# Altium integrated library TI Power Management Battery Management.IntLib: 949 symbols (part 62 of 62)
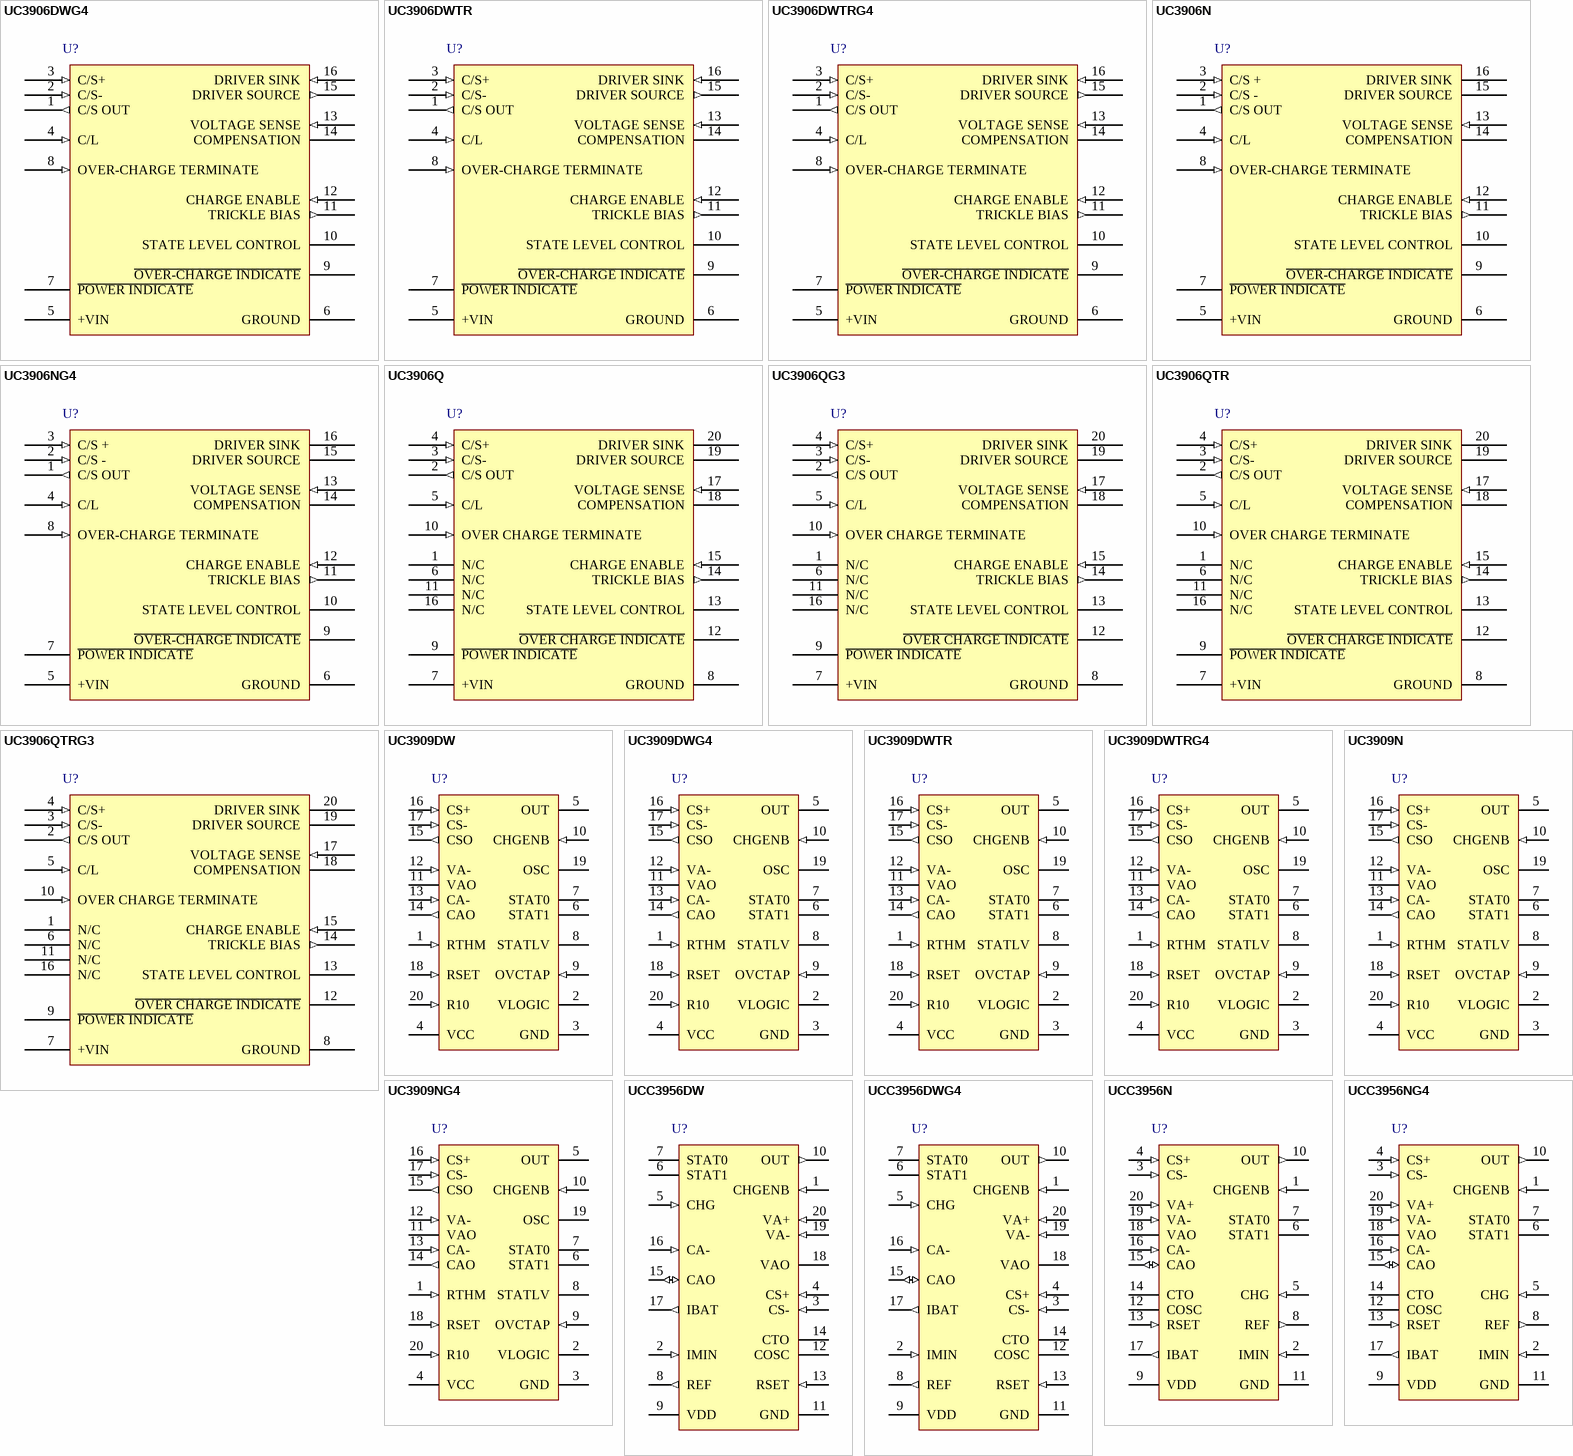
[diagram p95: symbols UC3906DWG4 to UCC3956NG4]

## UC3909DWTR
designator U?
Switch-Mode Lead-Acid Battery Charger with Differential Current Sense, -20 to 70 degC, 20-pin SOIC (DW), Green (RoHS & no Sb/Br); PartNumber: UC3909DWTR; Manufacturer: Texas Instruments; Lead Acid: Y; Li-Ion: N; SubFamily: Battery Charge Management; PackageVersion: revG, Jan-2011; PackageReference: DW20; PackageDescription: 20-Pin Plastic Small Outline Integrated Circuit, 12.8 x 7.5 mm, Pitch 1.27 mm Pitch; Supplier 1: Digi-Key; Supplier Part Number 1: UC3909DWTR-ND; Supplier 2: Newark; Supplier Part Number 2: 77C3476; Supplier 3: Mouser; Supplier Part Number 3: 595-UC3909DWTR; Eco-Plan: Green (RoHS & no Sb/Br); Li-Polymer: N; NiCd: N; NiMH: N; Over Voltage Protection: N; Mounting Technology: Surface Mount; Code_JEDEC: MS-013-AC; ComponentLink1Description: Datasheet; ComponentLink1URL: http://www.ti.com/general/docs/lit/getliterature.tsp?genericPartNumber=UC3909&fileType=pdf
footprint DW20_N (SOIC, 20-Leads, Body 12.8x7.5mm, Pitch 1.27mm, IPC Medium Density)
footprint DW20_L (SOIC, 20-Leads, Body 12.8x7.5mm, Pitch 1.27mm, IPC High Density)
footprint DW20_M (SOIC, 20-Leads, Body 12.8x7.5mm, Pitch 1.27mm, IPC Low Density)
pins: 1 RTHM (in) "A 10k thermistor is connected to ground and is thermally connected to the battery. The resistance will vary exponentially over temperature and its change is used to vary the internal 2.3V reference by -3.9mV/degreesC. The (See Datasheet)", 2 VLOGIC "The precision reference voltage. It should be bypassed with a 0.1uF capacitor.", 3 GND (power) "The reference point for the internal reference, all thresholds, and the return for the remainder of the device. The output sink transistor is wired directly to this pin.", 4 VCC (power) "The input voltage to the chip. The chip is operational between 7.5V and 40V and should be bypassed with a 1uF capacitor. A typical ICC vs. temperature is shown in Figure 1.", 5 OUT (power) "The output of the PWM driver which consists of  an open collector output transistor with 100mA sink capability.", 6 STAT1 (oc) "This open collector pin is the second decode bit sed to decode the charge states.", 7 STAT0 (oc) "This open collector pin is the first decode bit used to decode the charge states.", 8 STATLV (oc) "This bit is high when the charger is in the float state.", 9 OVCTAP (in) "The overcharge current taper pin detects when the output current has tapered to the float threshold in the overcharge state.", 10 CHGENB (in) "The input to a comparator that detects when battery voltage is low and places the charger in a trickle charge state. The charge enable comparator makes the output of the voltage error amplifier a high impedance while forcing (See Datasheet)", 11 VAO (hiz) "The output of the voltage error amplifier. The upper output clamp voltage of this amplifier is 5V.", 12 VA- (in) "The inverting input to the voltage error amplifier.", 13 CA- (in) "The inverting input to the current error amplifier.", 14 CAO (out) "The output of the current error amplifier which is internally clamped to approximately 4V. It is internally connected to the inverting input of the PWM comparator.", 15 CSO (out) "The output of the current sense amplifier which is internally clamped to approximately 5.7V.", 16 CS+ (in) "The inverting and non-inverting inputs to the current sense amplifier. This amplifier has a fixed gain of five and a common-mode voltage range of from -250mV to +VCC.", 17 CS- (in) "The inverting and non-inverting inputs to the current sense amplifier. This amplifier has a fixed gain of five and a common-mode voltage range of from -250mV to +VCC.", 18 RSET (in) "A resistor to ground programs the oscillator charge current and the trickle control current for the oscillator ramp.The oscillator charge current is approximately 1.75 / RSET. The trickle control current (ITRCK_CONTROL) is (See Datasheet)", 19 OSC "The oscillator ramp pin which has a capacitor (CT) to ground. The ramp oscillates between approximately 1.0V to 3.0V and the frequency is approximated by:frequency=1 / (1.2*CT*Rset)", 20 R10 (in) "Input used to establish a differential voltage corresponding to the temperature of the thermistor. Connect a 10k resistor to ground from this point."

## UC3909DWTRG4
designator U?
Switch-Mode Lead-Acid Battery Charger with Differential Current Sense, -20 to 70 degC, 20-pin SOIC (DW), Green (RoHS & no Sb/Br); PartNumber: UC3909DWTRG4; Manufacturer: Texas Instruments; Lead Acid: Y; Li-Ion: N; SubFamily: Battery Charge Management; PackageVersion: revG, Jan-2011; PackageReference: DW20; PackageDescription: 20-Pin Plastic Small Outline Integrated Circuit, 12.8 x 7.5 mm, Pitch 1.27 mm Pitch; Supplier 1: Digi-Key; Supplier Part Number 1: UC3909DWTRG4-ND; Supplier 2: Newark; Supplier Part Number 2: 54K2364; Supplier 3: Mouser; Supplier Part Number 3: 595-UC3909DWTRG4; Eco-Plan: Green (RoHS & no Sb/Br); Li-Polymer: N; NiCd: N; NiMH: N; Over Voltage Protection: N; Mounting Technology: Surface Mount; Code_JEDEC: MS-013-AC; ComponentLink1Description: Datasheet; ComponentLink1URL: http://www.ti.com/general/docs/lit/getliterature.tsp?genericPartNumber=UC3909&fileType=pdf
footprint DW20_N (SOIC, 20-Leads, Body 12.8x7.5mm, Pitch 1.27mm, IPC Medium Density)
footprint DW20_L (SOIC, 20-Leads, Body 12.8x7.5mm, Pitch 1.27mm, IPC High Density)
footprint DW20_M (SOIC, 20-Leads, Body 12.8x7.5mm, Pitch 1.27mm, IPC Low Density)
pins: 1 RTHM (in) "A 10k thermistor is connected to ground and is thermally connected to the battery. The resistance will vary exponentially over temperature and its change is used to vary the internal 2.3V reference by -3.9mV/degreesC. The (See Datasheet)", 2 VLOGIC "The precision reference voltage. It should be bypassed with a 0.1uF capacitor.", 3 GND (power) "The reference point for the internal reference, all thresholds, and the return for the remainder of the device. The output sink transistor is wired directly to this pin.", 4 VCC (power) "The input voltage to the chip. The chip is operational between 7.5V and 40V and should be bypassed with a 1uF capacitor. A typical ICC vs. temperature is shown in Figure 1.", 5 OUT (power) "The output of the PWM driver which consists of  an open collector output transistor with 100mA sink capability.", 6 STAT1 (oc) "This open collector pin is the second decode bit sed to decode the charge states.", 7 STAT0 (oc) "This open collector pin is the first decode bit used to decode the charge states.", 8 STATLV (oc) "This bit is high when the charger is in the float state.", 9 OVCTAP (in) "The overcharge current taper pin detects when the output current has tapered to the float threshold in the overcharge state.", 10 CHGENB (in) "The input to a comparator that detects when battery voltage is low and places the charger in a trickle charge state. The charge enable comparator makes the output of the voltage error amplifier a high impedance while forcing (See Datasheet)", 11 VAO (hiz) "The output of the voltage error amplifier. The upper output clamp voltage of this amplifier is 5V.", 12 VA- (in) "The inverting input to the voltage error amplifier.", 13 CA- (in) "The inverting input to the current error amplifier.", 14 CAO (out) "The output of the current error amplifier which is internally clamped to approximately 4V. It is internally connected to the inverting input of the PWM comparator.", 15 CSO (out) "The output of the current sense amplifier which is internally clamped to approximately 5.7V.", 16 CS+ (in) "The inverting and non-inverting inputs to the current sense amplifier. This amplifier has a fixed gain of five and a common-mode voltage range of from -250mV to +VCC.", 17 CS- (in) "The inverting and non-inverting inputs to the current sense amplifier. This amplifier has a fixed gain of five and a common-mode voltage range of from -250mV to +VCC.", 18 RSET (in) "A resistor to ground programs the oscillator charge current and the trickle control current for the oscillator ramp.The oscillator charge current is approximately 1.75 / RSET. The trickle control current (ITRCK_CONTROL) is (See Datasheet)", 19 OSC "The oscillator ramp pin which has a capacitor (CT) to ground. The ramp oscillates between approximately 1.0V to 3.0V and the frequency is approximated by:frequency=1 / (1.2*CT*Rset)", 20 R10 (in) "Input used to establish a differential voltage corresponding to the temperature of the thermistor. Connect a 10k resistor to ground from this point."

## UC3909N
designator U?
Switch-Mode Lead-Acid Battery Charger with Differential Current Sense, -20 to 70 degC, 20-pin PDIP (N), Green (RoHS & no Sb/Br); PartNumber: UC3909N; Manufacturer: Texas Instruments; Lead Acid: Y; SubFamily: Battery Charge Management; PackageVersion: revE, Dec-2002; PackageReference: N20; PackageDescription: 20-Pin Plastic Dual-In-Line Package, Row Spacing 7.62 mm, Pitch 2.54 mm; Supplier 1: Digi-Key; Supplier Part Number 1: 296-2232-5-ND; Supplier 2: Farnell; Supplier Part Number 2: 1755702; Supplier 3: Newark; Supplier Part Number 3: 77C3477; Supplier 4: Mouser; Supplier Part Number 4: 595-UC3909N; Eco-Plan: Green (RoHS & no Sb/Br); Li-Ion: N; Li-Polymer: N; NiCd: N; NiMH: N; Over Voltage Protection: N; Mounting Technology: Through Hole; Code_JEDEC: MS-001-AC*; ComponentLink1Description: Datasheet; ComponentLink1URL: http://www.ti.com/general/docs/lit/getliterature.tsp?genericPartNumber=UC3909&fileType=pdf
footprint N20 (DIP, 20-Leads, Row Spacing 7.62mm, Pitch 2.54mm, Body 25.4x6.4mm)
pins: 1 RTHM (in) "A 10k thermistor is connected to ground and is thermally connected to the battery. The resistance will vary exponentially over temperature and its change is used to vary the internal 2.3V reference by -3.9mV/degreesC. The (See Datasheet)", 2 VLOGIC "The precision reference voltage. It should be bypassed with a 0.1uF capacitor.", 3 GND (power) "The reference point for the internal reference, all thresholds, and the return for the remainder of the device. The output sink transistor is wired directly to this pin.", 4 VCC (power) "The input voltage to the chip. The chip is operational between 7.5V and 40V and should be bypassed with a 1uF capacitor. A typical ICC vs. temperature is shown in Figure 1.", 5 OUT (power) "The output of the PWM driver which consists of  an open collector output transistor with 100mA sink capability.", 6 STAT1 (oc) "This open collector pin is the second decode bit sed to decode the charge states.", 7 STAT0 (oc) "This open collector pin is the first decode bit used to decode the charge states.", 8 STATLV (oc) "This bit is high when the charger is in the float state.", 9 OVCTAP (in) "The overcharge current taper pin detects when the output current has tapered to the float threshold in the overcharge state.", 10 CHGENB (in) "The input to a comparator that detects when battery voltage is low and places the charger in a trickle charge state. The charge enable comparator makes the output of the voltage error amplifier a high impedance while forcing (See Datasheet)", 11 VAO (hiz) "The output of the voltage error amplifier. The upper output clamp voltage of this amplifier is 5V.", 12 VA- (in) "The inverting input to the voltage error amplifier.", 13 CA- (in) "The inverting input to the current error amplifier.", 14 CAO (out) "The output of the current error amplifier which is internally clamped to approximately 4V. It is internally connected to the inverting input of the PWM comparator.", 15 CSO (out) "The output of the current sense amplifier which is internally clamped to approximately 5.7V.", 16 CS+ (in) "The inverting and non-inverting inputs to the current sense amplifier. This amplifier has a fixed gain of five and a common-mode voltage range of from -250mV to +VCC.", 17 CS- (in) "The inverting and non-inverting inputs to the current sense amplifier. This amplifier has a fixed gain of five and a common-mode voltage range of from -250mV to +VCC.", 18 RSET (in) "A resistor to ground programs the oscillator charge current and the trickle control current for the oscillator ramp.The oscillator charge current is approximately 1.75 / RSET. The trickle control current (ITRCK_CONTROL) is (See Datasheet)", 19 OSC "The oscillator ramp pin which has a capacitor (CT) to ground. The ramp oscillates between approximately 1.0V to 3.0V and the frequency is approximated by:frequency=1 / (1.2*CT*Rset)", 20 R10 (in) "Input used to establish a differential voltage corresponding to the temperature of the thermistor. Connect a 10k resistor to ground from this point."

## UC3909NG4
designator U?
Switch-Mode Lead-Acid Battery Charger with Differential Current Sense, -20 to 70 degC, 20-pin PDIP (N), Green (RoHS & no Sb/Br); PartNumber: UC3909NG4; Manufacturer: Texas Instruments; Lead Acid: Y; SubFamily: Battery Charge Management; PackageVersion: revE, Dec-2002; PackageReference: N20; PackageDescription: 20-Pin Plastic Dual-In-Line Package, Row Spacing 7.62 mm, Pitch 2.54 mm; Supplier 1: Digi-Key; Supplier Part Number 1: UC3909NG4-ND; Supplier 2: Newark; Supplier Part Number 2: 70K6039; Supplier 3: Mouser; Supplier Part Number 3: 595-UC3909NG4; Eco-Plan: Green (RoHS & no Sb/Br); Li-Ion: N; Li-Polymer: N; NiCd: N; NiMH: N; Over Voltage Protection: N; Mounting Technology: Through Hole; Code_JEDEC: MS-001-AC*; ComponentLink1Description: Datasheet; ComponentLink1URL: http://www.ti.com/general/docs/lit/getliterature.tsp?genericPartNumber=UC3909&fileType=pdf
footprint N20 (DIP, 20-Leads, Row Spacing 7.62mm, Pitch 2.54mm, Body 25.4x6.4mm)
pins: 1 RTHM (in) "A 10k thermistor is connected to ground and is thermally connected to the battery. The resistance will vary exponentially over temperature and its change is used to vary the internal 2.3V reference by -3.9mV/degreesC. The (See Datasheet)", 2 VLOGIC "The precision reference voltage. It should be bypassed with a 0.1uF capacitor.", 3 GND (power) "The reference point for the internal reference, all thresholds, and the return for the remainder of the device. The output sink transistor is wired directly to this pin.", 4 VCC (power) "The input voltage to the chip. The chip is operational between 7.5V and 40V and should be bypassed with a 1uF capacitor. A typical ICC vs. temperature is shown in Figure 1.", 5 OUT (power) "The output of the PWM driver which consists of  an open collector output transistor with 100mA sink capability.", 6 STAT1 (oc) "This open collector pin is the second decode bit sed to decode the charge states.", 7 STAT0 (oc) "This open collector pin is the first decode bit used to decode the charge states.", 8 STATLV (oc) "This bit is high when the charger is in the float state.", 9 OVCTAP (in) "The overcharge current taper pin detects when the output current has tapered to the float threshold in the overcharge state.", 10 CHGENB (in) "The input to a comparator that detects when battery voltage is low and places the charger in a trickle charge state. The charge enable comparator makes the output of the voltage error amplifier a high impedance while forcing (See Datasheet)", 11 VAO (hiz) "The output of the voltage error amplifier. The upper output clamp voltage of this amplifier is 5V.", 12 VA- (in) "The inverting input to the voltage error amplifier.", 13 CA- (in) "The inverting input to the current error amplifier.", 14 CAO (out) "The output of the current error amplifier which is internally clamped to approximately 4V. It is internally connected to the inverting input of the PWM comparator.", 15 CSO (out) "The output of the current sense amplifier which is internally clamped to approximately 5.7V.", 16 CS+ (in) "The inverting and non-inverting inputs to the current sense amplifier. This amplifier has a fixed gain of five and a common-mode voltage range of from -250mV to +VCC.", 17 CS- (in) "The inverting and non-inverting inputs to the current sense amplifier. This amplifier has a fixed gain of five and a common-mode voltage range of from -250mV to +VCC.", 18 RSET (in) "A resistor to ground programs the oscillator charge current and the trickle control current for the oscillator ramp.The oscillator charge current is approximately 1.75 / RSET. The trickle control current (ITRCK_CONTROL) is (See Datasheet)", 19 OSC "The oscillator ramp pin which has a capacitor (CT) to ground. The ramp oscillates between approximately 1.0V to 3.0V and the frequency is approximated by:frequency=1 / (1.2*CT*Rset)", 20 R10 (in) "Input used to establish a differential voltage corresponding to the temperature of the thermistor. Connect a 10k resistor to ground from this point."

## UCC3956DW
designator U?
Switch-Mode Lead-Acid Battery Charger with Differential Current Sense, -20 to 70 degC, 20-pin SOIC (DW), Green (RoHS & no Sb/Br); PartNumber: UCC3956DW; Manufacturer: Texas Instruments; Lead Acid: N; Li-Ion: Y; SubFamily: Battery Charge Management; DatasheetVersion: SLUS249B; PackageVersion: revG, Jan-2011; PackageReference: DW20; PackageDescription: 20-Pin Plastic Small Outline Integrated Circuit, 12.8 x 7.5 mm, Pitch 1.27 mm Pitch; Supplier 1: Digi-Key; Supplier Part Number 1: 296-11560-5-ND; Supplier 2: Newark; Supplier Part Number 2: 77C2650; Supplier 3: Mouser; Supplier Part Number 3: 595-UCC3956DW; Eco-Plan: Green (RoHS & no Sb/Br); Li-Polymer: Y; NiCd: N; NiMH: N; Over Voltage Protection: N; Mounting Technology: Surface Mount; Code_JEDEC: MS-013-AC; ComponentLink1Description: Datasheet; ComponentLink1URL: http://www.ti.com/general/docs/lit/getliterature.tsp?genericPartNumber=UCC3956&fileType=pdf
footprint DW20_N (SOIC, 20-Leads, Body 12.8x7.5mm, Pitch 1.27mm, IPC Medium Density)
footprint DW20_L (SOIC, 20-Leads, Body 12.8x7.5mm, Pitch 1.27mm, IPC High Density)
footprint DW20_M (SOIC, 20-Leads, Body 12.8x7.5mm, Pitch 1.27mm, IPC Low Density)
pins: 1 CHGENB (in) "The input to a comparator that detects when the battery voltage is low and places the charger in trickle charge. The charge-enable comparator forces the output of the voltage-error amplifier to a high-impedance state while (See Datasheet)", 2 IMIN (in) "The minimum-charge-current programming pin is provided to program an optional-charge termination in addition to the programmable timer.", 3 CS- (in) "The inverting and non-inverting inputs to the current-sense amplifier. This amplifier has a fixed-gain of 5.", 4 CS+ (in) "The inverting and non-inverting inputs to the current-sense amplifier. This amplifier has a fixed-gain of 5.", 5 CHG (in) "A rising-edge triggered-input pin that indicates charging. Once the internal 14-bit timer has timed out, the chip enters its shutdown charge state. At this point, CHG is pulled low by an internal buffer. Another low-to-high (See Datasheet)", 6 STAT1 (oc) "CMOS open-drain binary-output decode pins indicating the four different charge states. The maximum high-voltage sense comparator.", 7 STAT0 (oc) "CMOS open-drain binary-output decode pins indicating the four different charge states. The maximum high-voltage sense comparator.", 8 REF (out) "The 4.1-V precision reference, which should be bypassed with a 0.1-uF capacitor", 9 VDD (power) "The input voltage of the chip. This chip is operational between 6 V and 18 V and should be bypassed with a 0.1-uF capacitor.", 10 OUT (out) "The output of the PWM driver", 11 GND (power) "The reference point for the internal reference, all thresholds, and the return for the remainder of the device.", 12 COSC "The oscillator ramp pin which has a capacitor (COSC) to ground. The ramp oscillates between 0.8 V to 3.2 V and the frequency is determined by:Frequency = 3.475/[(COSC  20 pF) X RSET] A rising edge on CHG initiates the (See Datasheet)", 13 RSET (in) "This pin programs the charge current for the oscillator ramp.The oscillator-charge current is determined by:ICOSC=1.37 V/RSET  The trickle-control current (ITRCK_CONTROL) is determined by:ITCK_CONTROL=0.68 V/RSET", 14 CTO "The slow oscillator ramp pin, which is used to generate a clock signal for the 14-bit timer to program the overcharge time. A capacitor (tied to ground) is charged and discharged with equal currents at a frequency programmed (See Datasheet)", 15 CAO (io) "The output of the current-error amplifier and inverting input of the PWM comparator. This pin is driven high during shutdown.", 16 CA- (in) "The inverting input to the current-error amplifier", 17 IBAT (out) "The output of the current-sense amplifier.", 18 VAO (hiz) "The output of the voltage-error amplifier. The upper-output clamp of this amplifier is 4.1 V.", 19 VA- (in) "The inverting input to the voltage-error amplifier that is used as a battery-sense input. It is also the input to the voltage-sense comparator. The bulk-charge state is completed and overcharge state is initiated when VA- (See Datasheet)", 20 VA+ (in) "The non-inverting input to the voltage-error amplifier that is used as the battery-charge reference voltage."

## UCC3956DWG4
designator U?
Switch-Mode Lead-Acid Battery Charger with Differential Current Sense, -20 to 70 degC, 20-pin SOIC (DW), Green (RoHS & no Sb/Br); PartNumber: UCC3956DWG4; Manufacturer: Texas Instruments; Lead Acid: N; Li-Ion: Y; SubFamily: Battery Charge Management; DatasheetVersion: SLUS249B; PackageVersion: revG, Jan-2011; PackageReference: DW20; PackageDescription: 20-Pin Plastic Small Outline Integrated Circuit, 12.8 x 7.5 mm, Pitch 1.27 mm Pitch; Supplier 1: Digi-Key; Supplier Part Number 1: UCC3956DWG4-ND; Supplier 2: Newark; Supplier Part Number 2: 99K4477; Supplier 3: Mouser; Supplier Part Number 3: 595-UCC3956DWG4; Eco-Plan: Green (RoHS & no Sb/Br); Li-Polymer: Y; NiCd: N; NiMH: N; Over Voltage Protection: N; Mounting Technology: Surface Mount; Code_JEDEC: MS-013-AC; ComponentLink1Description: Datasheet; ComponentLink1URL: http://www.ti.com/general/docs/lit/getliterature.tsp?genericPartNumber=UCC3956&fileType=pdf
footprint DW20_N (SOIC, 20-Leads, Body 12.8x7.5mm, Pitch 1.27mm, IPC Medium Density)
footprint DW20_L (SOIC, 20-Leads, Body 12.8x7.5mm, Pitch 1.27mm, IPC High Density)
footprint DW20_M (SOIC, 20-Leads, Body 12.8x7.5mm, Pitch 1.27mm, IPC Low Density)
pins: 1 CHGENB (in) "The input to a comparator that detects when the battery voltage is low and places the charger in trickle charge. The charge-enable comparator forces the output of the voltage-error amplifier to a high-impedance state while (See Datasheet)", 2 IMIN (in) "The minimum-charge-current programming pin is provided to program an optional-charge termination in addition to the programmable timer.", 3 CS- (in) "The inverting and non-inverting inputs to the current-sense amplifier. This amplifier has a fixed-gain of 5.", 4 CS+ (in) "The inverting and non-inverting inputs to the current-sense amplifier. This amplifier has a fixed-gain of 5.", 5 CHG (in) "A rising-edge triggered-input pin that indicates charging. Once the internal 14-bit timer has timed out, the chip enters its shutdown charge state. At this point, CHG is pulled low by an internal buffer. Another low-to-high (See Datasheet)", 6 STAT1 (oc) "CMOS open-drain binary-output decode pins indicating the four different charge states. The maximum high-voltage sense comparator.", 7 STAT0 (oc) "CMOS open-drain binary-output decode pins indicating the four different charge states. The maximum high-voltage sense comparator.", 8 REF (out) "The 4.1-V precision reference, which should be bypassed with a 0.1-uF capacitor", 9 VDD (power) "The input voltage of the chip. This chip is operational between 6 V and 18 V and should be bypassed with a 0.1-uF capacitor.", 10 OUT (out) "The output of the PWM driver", 11 GND (power) "The reference point for the internal reference, all thresholds, and the return for the remainder of the device.", 12 COSC "The oscillator ramp pin which has a capacitor (COSC) to ground. The ramp oscillates between 0.8 V to 3.2 V and the frequency is determined by:Frequency = 3.475/[(COSC  20 pF) X RSET] A rising edge on CHG initiates the (See Datasheet)", 13 RSET (in) "This pin programs the charge current for the oscillator ramp.The oscillator-charge current is determined by:ICOSC=1.37 V/RSET  The trickle-control current (ITRCK_CONTROL) is determined by:ITCK_CONTROL=0.68 V/RSET", 14 CTO "The slow oscillator ramp pin, which is used to generate a clock signal for the 14-bit timer to program the overcharge time. A capacitor (tied to ground) is charged and discharged with equal currents at a frequency programmed (See Datasheet)", 15 CAO (io) "The output of the current-error amplifier and inverting input of the PWM comparator. This pin is driven high during shutdown.", 16 CA- (in) "The inverting input to the current-error amplifier", 17 IBAT (out) "The output of the current-sense amplifier.", 18 VAO (hiz) "The output of the voltage-error amplifier. The upper-output clamp of this amplifier is 4.1 V.", 19 VA- (in) "The inverting input to the voltage-error amplifier that is used as a battery-sense input. It is also the input to the voltage-sense comparator. The bulk-charge state is completed and overcharge state is initiated when VA- (See Datasheet)", 20 VA+ (in) "The non-inverting input to the voltage-error amplifier that is used as the battery-charge reference voltage."

## UCC3956N
designator U?
Switch-Mode Lead-Acid Battery Charger with Differential Current Sense, -20 to 70 degC, 20-pin PDIP (N), Green (RoHS & no Sb/Br); PartNumber: UCC3956N; Manufacturer: Texas Instruments; Li-Ion: Y; SubFamily: Battery Charge Management; DatasheetVersion: SLUS249B; PackageVersion: revE, Dec-2002; PackageReference: N20; PackageDescription: 20-Pin Plastic Dual-In-Line Package, Row Spacing 7.62 mm, Pitch 2.54 mm; Supplier 1: Digi-Key; Supplier Part Number 1: 296-2233-5-ND; Supplier 2: Newark; Supplier Part Number 2: 77C2652; Supplier 3: Mouser; Supplier Part Number 3: 595-UCC3956N; Eco-Plan: Green (RoHS & no Sb/Br); Lead Acid: N; Li-Polymer: Y; NiCd: N; NiMH: N; Over Voltage Protection: N; Mounting Technology: Through Hole; Code_JEDEC: MS-001-AC*; ComponentLink1Description: Datasheet; ComponentLink1URL: http://www.ti.com/general/docs/lit/getliterature.tsp?genericPartNumber=UCC3956&fileType=pdf
footprint N20 (DIP, 20-Leads, Row Spacing 7.62mm, Pitch 2.54mm, Body 25.4x6.4mm)
pins: 1 CHGENB (in) "The input to a comparator that detects when the battery voltage is low and places the charger in trickle charge. The charge-enable comparator forces the output of the voltage-error amplifier to a high-impedance state while (See Datasheet)", 2 IMIN (in) "The minimum-charge-current programming pin is provided to program an optional-charge termination in addition to the programmable timer.", 3 CS- (in) "The inverting and non-inverting inputs to the current-sense amplifier. This amplifier has a fixed-gain of 5.", 4 CS+ (in) "The inverting and non-inverting inputs to the current-sense amplifier. This amplifier has a fixed-gain of 5.", 5 CHG (in) "A rising-edge triggered-input pin that indicates charging. Once the internal 14-bit timer has timed out, the chip enters its shutdown charge state. At this point, CHG is pulled low by an internal buffer. Another low-to-high (See Datasheet)", 6 STAT1 (oc) "CMOS open-drain binary-output decode pins indicating the four different charge states. The maximum high-voltage sense comparator.", 7 STAT0 (oc) "CMOS open-drain binary-output decode pins indicating the four different charge states. The maximum high-voltage sense comparator.", 8 REF (out) "The 4.1-V precision reference, which should be bypassed with a 0.1-uF capacitor", 9 VDD (power) "The input voltage of the chip. This chip is operational between 6 V and 18 V and should be bypassed with a 0.1-uF capacitor.", 10 OUT (out) "The output of the PWM driver", 11 GND (power) "The reference point for the internal reference, all thresholds, and the return for the remainder of the device.", 12 COSC "The oscillator ramp pin which has a capacitor (COSC) to ground. The ramp oscillates between 0.8 V to 3.2 V and the frequency is determined by:Frequency = 3.475/[(COSC  20 pF) X RSET] A rising edge on CHG initiates the (See Datasheet)", 13 RSET (in) "This pin programs the charge current for the oscillator ramp.The oscillator-charge current is determined by:ICOSC=1.37 V/REST  The trickle-control current (ITRCK_CONTROL) is determined by:ITCK_CONTROL=0.68 V/REST.", 14 CTO "The slow oscillator ramp pin, which is used to generate a clock signal for the 14-bit timer to program the overcharge time. A capacitor (tied to ground) is charged and discharged with equal currents at a frequency programmed (See Datasheet)", 15 CAO (io) "The output of the current-error amplifier and inverting input of the PWM comparator. This pin is driven high during shutdown.", 16 CA- (in) "The inverting input to the current-error amplifier", 17 IBAT (out) "The output of the current-sense amplifier.", 18 VAO (hiz) "The output of the voltage-error amplifier. The upper-output clamp of this amplifier is 4.1 V.", 19 VA- (in) "The inverting input to the voltage-error amplifier that is used as a battery-sense input. It is also the input to the voltage-sense comparator. The bulk-charge state is completed and overcharge state is initiated when VA- (See Datasheet)", 20 VA+ (in) "The non-inverting input to the voltage-error amplifier that is used as the battery-charge reference voltage."

## UCC3956NG4
designator U?
Switch-Mode Lead-Acid Battery Charger with Differential Current Sense, -20 to 70 degC, 20-pin PDIP (N), Green (RoHS & no Sb/Br); PartNumber: UCC3956NG4; Manufacturer: Texas Instruments; Li-Ion: Y; SubFamily: Battery Charge Management; DatasheetVersion: SLUS249B; PackageVersion: revE, Dec-2002; PackageReference: N20; PackageDescription: 20-Pin Plastic Dual-In-Line Package, Row Spacing 7.62 mm, Pitch 2.54 mm; Supplier 1: Digi-Key; Supplier Part Number 1: UCC3956NG4-ND; Supplier 2: Newark; Supplier Part Number 2: 99K4478; Supplier 3: Mouser; Supplier Part Number 3: 595-UCC3956NG4; Eco-Plan: Green (RoHS & no Sb/Br); Lead Acid: N; Li-Polymer: Y; NiCd: N; NiMH: N; Over Voltage Protection: N; Mounting Technology: Through Hole; Code_JEDEC: MS-001-AC*; ComponentLink1Description: Datasheet; ComponentLink1URL: http://www.ti.com/general/docs/lit/getliterature.tsp?genericPartNumber=UCC3956&fileType=pdf
footprint N20 (DIP, 20-Leads, Row Spacing 7.62mm, Pitch 2.54mm, Body 25.4x6.4mm)
pins: 1 CHGENB (in) "The input to a comparator that detects when the battery voltage is low and places the charger in trickle charge. The charge-enable comparator forces the output of the voltage-error amplifier to a high-impedance state while (See Datasheet)", 2 IMIN (in) "The minimum-charge-current programming pin is provided to program an optional-charge termination in addition to the programmable timer.", 3 CS- (in) "The inverting and non-inverting inputs to the current-sense amplifier. This amplifier has a fixed-gain of 5.", 4 CS+ (in) "The inverting and non-inverting inputs to the current-sense amplifier. This amplifier has a fixed-gain of 5.", 5 CHG (in) "A rising-edge triggered-input pin that indicates charging. Once the internal 14-bit timer has timed out, the chip enters its shutdown charge state. At this point, CHG is pulled low by an internal buffer. Another low-to-high (See Datasheet)", 6 STAT1 (oc) "CMOS open-drain binary-output decode pins indicating the four different charge states. The maximum high-voltage sense comparator.", 7 STAT0 (oc) "CMOS open-drain binary-output decode pins indicating the four different charge states. The maximum high-voltage sense comparator.", 8 REF (out) "The 4.1-V precision reference, which should be bypassed with a 0.1-uF capacitor", 9 VDD (power) "The input voltage of the chip. This chip is operational between 6 V and 18 V and should be bypassed with a 0.1-uF capacitor.", 10 OUT (out) "The output of the PWM driver", 11 GND (power) "The reference point for the internal reference, all thresholds, and the return for the remainder of the device.", 12 COSC "The oscillator ramp pin which has a capacitor (COSC) to ground. The ramp oscillates between 0.8 V to 3.2 V and the frequency is determined by:Frequency = 3.475/[(COSC  20 pF) X RSET] A rising edge on CHG initiates the (See Datasheet)", 13 RSET (in) "This pin programs the charge current for the oscillator ramp.The oscillator-charge current is determined by:ICOSC=1.37 V/REST  The trickle-control current (ITRCK_CONTROL) is determined by:ITCK_CONTROL=0.68 V/REST.", 14 CTO "The slow oscillator ramp pin, which is used to generate a clock signal for the 14-bit timer to program the overcharge time. A capacitor (tied to ground) is charged and discharged with equal currents at a frequency programmed (See Datasheet)", 15 CAO (io) "The output of the current-error amplifier and inverting input of the PWM comparator. This pin is driven high during shutdown.", 16 CA- (in) "The inverting input to the current-error amplifier", 17 IBAT (out) "The output of the current-sense amplifier.", 18 VAO (hiz) "The output of the voltage-error amplifier. The upper-output clamp of this amplifier is 4.1 V.", 19 VA- (in) "The inverting input to the voltage-error amplifier that is used as a battery-sense input. It is also the input to the voltage-sense comparator. The bulk-charge state is completed and overcharge state is initiated when VA- (See Datasheet)", 20 VA+ (in) "The non-inverting input to the voltage-error amplifier that is used as the battery-charge reference voltage."